# EAGLE library part 8V97003 (library Renesas)
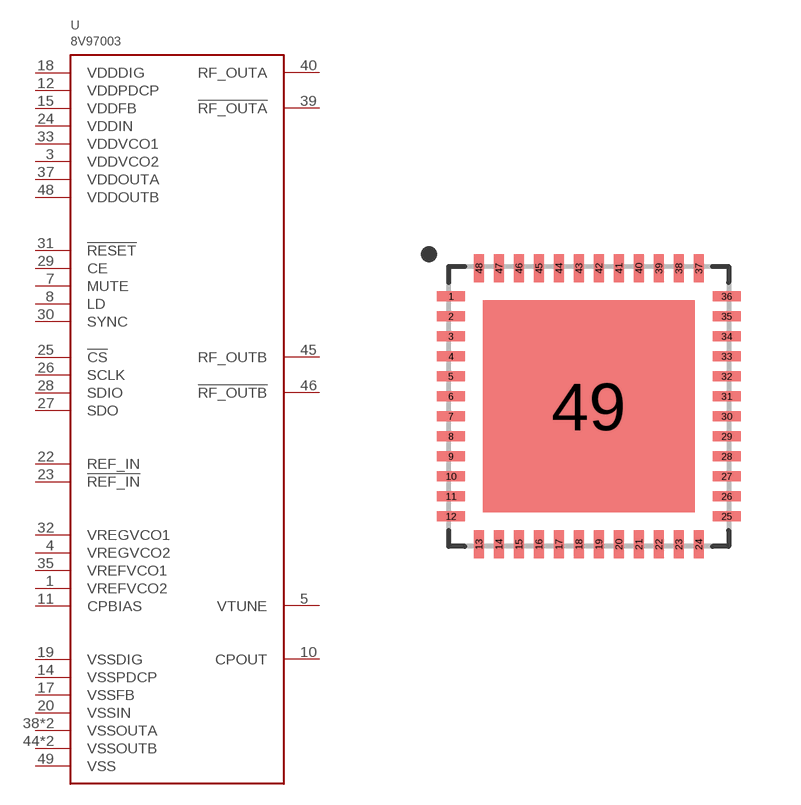
[diagram p7: symbol with the pads of VFQFPN48; footprint VFQFPN48]

Designator prefix U

## 8V97003  [VFQFPN48]
1  VREFVCO2
3  VDDVCO2
4  VREGVCO2
5  VTUNE
7  MUTE
8  LD
10  CPOUT
11  CPBIAS
12  VDDPDCP
14  VSSPDCP
15  VDDFB
17  VSSFB
18  VDDDIG
19  VSSDIG
20  VSSIN
22  REF_IN
23  !REF_IN
24  VDDIN
25  !CS
26  SCLK
27  SDO
28  SDIO
29  CE
30  SYNC
31  !RESET
32  VREGVCO1
33  VDDVCO1
35  VREFVCO1
37  VDDOUTA
38  VSSOUTA
39  !RF_OUTA
40  RF_OUTA
41  VSSOUTA
44  VSSOUTB
45  RF_OUTB
46  !RF_OUTB
47  VSSOUTB
48  VDDOUTB
49  VSS

## Footprint VFQFPN48 (pad centres in mm)
smd 0.7 x 0.25: 1 -3.45,2.75; 2 -3.45,2.25; 3 -3.45,1.75; 4 -3.45,1.25; 5 -3.45,0.75; 6 -3.45,0.25; 7 -3.45,-0.25; 8 -3.45,-0.75; 9 -3.45,-1.25; 10 -3.45,-1.75; 11 -3.45,-2.25; 12 -3.45,-2.75; 25 3.45,-2.75; 26 3.45,-2.25; 27 3.45,-1.75; 28 3.45,-1.25; 29 3.45,-0.75; 30 3.45,-0.25; 31 3.45,0.25; 32 3.45,0.75; 33 3.45,1.25; 34 3.45,1.75; 35 3.45,2.25; 36 3.45,2.75
smd 0.25 x 0.7: 13 -2.75,-3.45; 14 -2.25,-3.45; 15 -1.75,-3.45; 16 -1.25,-3.45; 17 -0.75,-3.45; 18 -0.25,-3.45; 19 0.25,-3.45; 20 0.75,-3.45; 21 1.25,-3.45; 22 1.75,-3.45; 23 2.25,-3.45; 24 2.75,-3.45; 37 2.75,3.45; 38 2.25,3.45; 39 1.75,3.45; 40 1.25,3.45; 41 0.75,3.45; 42 0.25,3.45; 43 -0.25,3.45; 44 -0.75,3.45; 45 -1.25,3.45; 46 -1.75,3.45; 47 -2.25,3.45; 48 -2.75,3.45
smd 5.3 x 5.3: 49 0,0